# EAGLE library part SENSOR-MOTION/POSITION-MMA8652FCR1(DFN10) (library Seeed-OPL-sensor)
314080006
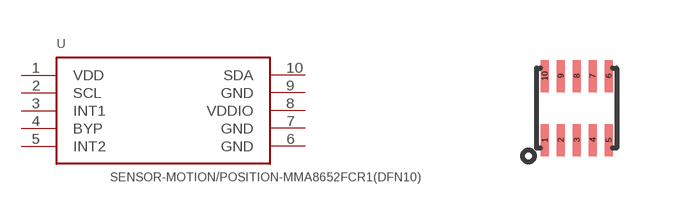
[diagram p27: symbol with the pads of DFN10-0.4-2X2MM; footprint DFN10-0.4-2X2MM]

Designator prefix U

## SENSOR-MOTION/POSITION-MMA8652FCR1(DFN10) (MPN: MMA8652FCR1; VALUE: MMA8652FCR1)  [DFN10-0.4-2X2MM]
1  VDD  pwr
2  SCL
3  INT1
4  BYP
5  INT2
6  GND  sup
7  GND  sup
8  VDDIO  pwr
9  GND  sup
10  SDA

## Footprint DFN10-0.4-2X2MM (pad centres in mm)
smd 0.2 x 0.8: 1 -0.8,-0.8; 2 -0.4,-0.8; 3 0,-0.8; 4 0.4,-0.8; 5 0.8,-0.8; 6 0.8,0.8; 7 0.4,0.8; 8 0,0.8; 9 -0.4,0.8; 10 -0.8,0.8